# Altium footprint library Capacitors.PcbLib: 22 footprints (part 2 of 2)
Each footprint in its own frame and in the unit in brackets; x right, y up, seen from the top. Pads: shape width x height; smd on the part's side, far side on the other; paste and mask are expansions set on the pad; w line width, h text height; cw(c..) or ccw(c..) is an arc to the next point about the centre after c.
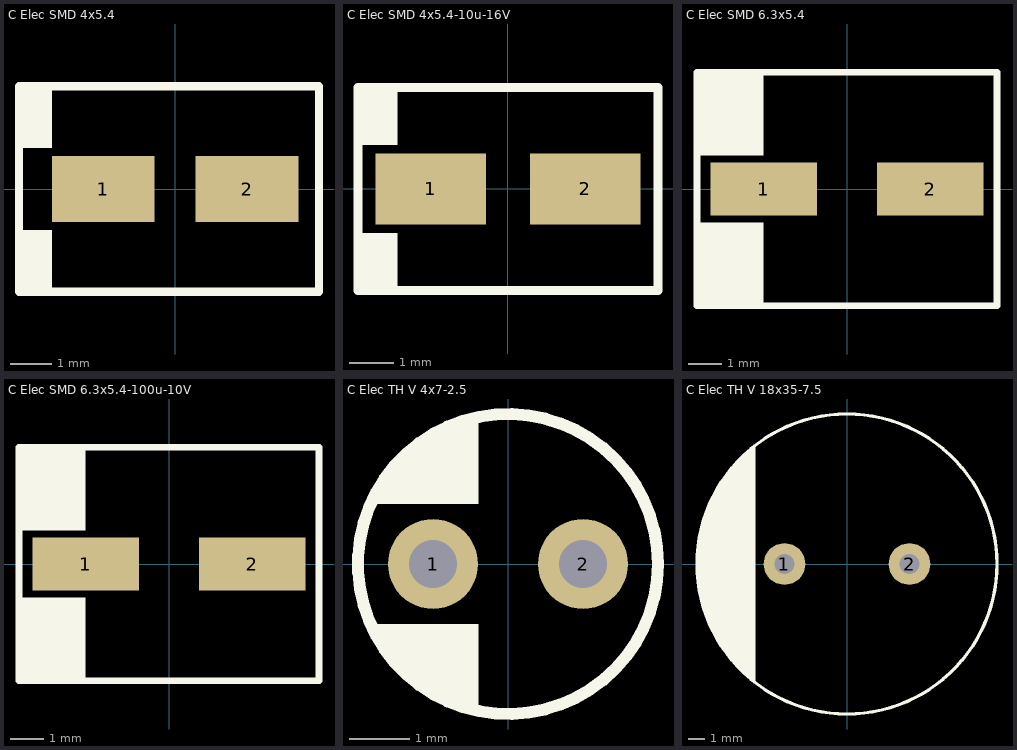
[diagram p1: the footprints below, top view; thin cyan lines are the x and y axes]

## C Elec SMD 4x5.4 [mm] "C Elec SMD 4x5.4, Generic Value"
height 6
pads (2):
  rect 2.5x1.6 smd: 1(-1.75,0) 2(1.75,0)
Top Overlay:
  rectangle: -3.8,-2.5 -3,-1
  rectangle: -3.8,1 -3,2.5
  lines w0.2: -3.8,-2.5 -3.8,2.5 3.5,2.5 3.5,-2.5 -3.8,-2.5
3D body "C Electro SMD 4x5.4 Generic.STEP": height 5.41, standoff 0.01, extent -2.911,-2.15 2.911,2.15

## C Elec SMD 4x5.4-10u-16V [mm] "C Elec SMD 4x5.4, 10uF, 16V"
height 6
pads (2):
  rect 2.5x1.6 smd: 1(-1.75,0) 2(1.75,0)
Top Overlay:
  rectangle: -3.4,-2.3 -2.5,-1
  rectangle: -3.4,1 -2.5,2.3
  lines w0.2: -3.4,-2.3 -3.4,2.3 3.4,2.3 3.4,-2.3 -3.4,-2.3
3D body "C Electro SMD 4x5.4.STEP": height 5.41, standoff 0.01, extent -2.911,-2.15 2.911,2.15

## C Elec SMD 6.3x5.4 [mm] "C Elec SMD 6.3x5.4, Generic Value"
height 6
pads (2):
  rect 3.2x1.6 smd: 1(-2.5,0) 2(2.5,0)
Top Overlay:
  rectangle: -4.5,1 -2.5,3.5
  rectangle: -4.5,-3.5 -2.5,-1
  lines w0.2: -4.5,-3.5 4.5,-3.5 4.5,3.5 -4.5,3.5 -4.5,-3.5
3D body "C Electro SMD 6.3x5.4-2.STEP": height 5.41, standoff 0.01, extent -3.8,-3.3 3.8,3.3

## C Elec SMD 6.3x5.4-100u-10V [mm] "C Elec SMD 6.3x5.4, 100uF, 10V"
height 6
pads (2):
  rect 3.2x1.6 smd: 1(-2.5,0) 2(2.5,0)
Top Overlay:
  rectangle: -4.5,-3.5 -2.5,-1
  rectangle: -4.5,1 -2.5,3.5
  lines w0.2: -4.5,-3.5 -4.5,3.5 4.5,3.5 4.5,-3.5 -4.5,-3.5
3D body "C Electro SMD 6.3x5.4.STEP": height 5.41, standoff 0.01, extent -3.8,-3.3 3.8,3.3

## C Elec TH V 4x7-2.5 [mm] "C Elec TH 4x7 2.5mm pitch"
height 8
pads (2):
  round 1.5 hole 0.8: 1(-1.25,0) 2(1.25,0)
Top Overlay:
  circle w0.2: c0,0 r2.5
  region: -0.5,-1 -2.2,-1 -2.2,-1.1 -2,-1.5 -1.9,-1.6 -1.6,-1.9 -1.3,-2.1 -0.7,-2.4 -0.5,-2.4
  region: -0.5,2.4 -0.5,1 -2.3,1 -2.1,1.4 -1.7,1.8 -1.5,2 -1.4,2.1 -1.2,2.2 -0.7,2.4
3D body "C Electro TH 4x7 Generic.STEP": height 7.05, standoff -2.55, extent -1.986,-1.981 2,1.982

## C Elec TH V 18x35-7.5 [mm] "C Elec TH 18x35 7.5mm pitch"
height 35
pads (2):
  round 2.5 hole 1.2: 1(-3.75,0) 2(3.75,0)
Top Overlay:
  circle w0.2: c0,0 r9
  region: -5.5,7.1 -5.5,-7.1 -5.6,-7.1 -7.2,-5.5 -7.2,-5.4 -7.5,-5.1 -7.5,-4.9 -7.7,-4.7 -7.7,-4.5 -8,-4.2 -8,-4 -8.2,-3.8 -8.2,-3.6 -8.4,-3.4 -8.4,-3.2 -8.5,-3.1 -8.5,-2.8 -8.6,-2.7 -8.6,-2.5 -8.7,-2.4 -8.7,-2.2 -8.8,-2.1 -8.8,-1.7 -8.9,-1.6 -8.9,-1.1 -9,-1 -9,0.8 -8.9,0.9 -8.9,1.7 -8.8,1.8 -8.8,2.2 -8.6,2.4 -8.6,2.9 -8.4,3.1 -8.4,3.4 -8.2,3.6 -8.2,3.8 -8,4 -8,4.3 -7.6,4.7 -7.6,4.9 -7.1,5.4 -7.1,5.6 -5.6,7.1
3D body "C Electro TH 18x35x7.5 Generic.STEP": height 35.05, standoff -2.55, extent -9,-8.999 9,8.999